# EAGLE library part ADC0804 (library #PaJa_30)
A/D prevodnik - 8bit
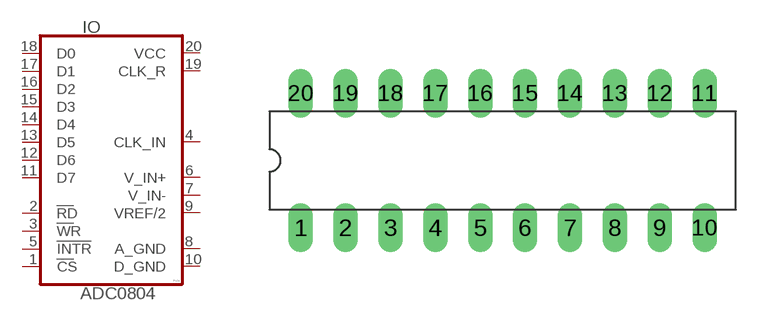
[diagram p23: symbol with the pads of DIL20; footprint DIL20]

Designator prefix IO

## ADC0804  [DIL20]
1  CS  pas
2  RD  pas
3  WR  pas
4  CLK_IN  pas
5  INTR  pas
6  V_IN+  pas
7  V_IN-  pas
8  A_GND  pas
9  VREF/2  pas
10  D_GND  pas
11  D7  out
12  D6  out
13  D5  out
14  D4  out
15  D3  out
16  D2  out
17  D1  out
18  D0  out
19  CLK_R  pas
20  VCC  pas

## Footprint DIL20 (pad centres in mm)
drill 0.813 pad 1.4 long: 1 -11.43,-3.81; 2 -8.89,-3.81; 3 -6.35,-3.81; 4 -3.81,-3.81; 5 -1.27,-3.81; 6 1.27,-3.81; 7 3.81,-3.81; 8 6.35,-3.81; 9 8.89,-3.81; 10 11.43,-3.81; 11 11.43,3.81; 12 8.89,3.81; 13 6.35,3.81; 14 3.81,3.81; 15 1.27,3.81; 16 -1.27,3.81; 17 -3.81,3.81; 18 -6.35,3.81; 19 -8.89,3.81; 20 -11.43,3.81